# Altium footprint library Intersil.PcbLib: 1 footprints
Each footprint in its own frame and in the unit in brackets; x right, y up, seen from the top. Pads: shape width x height; smd on the part's side, far side on the other; paste and mask are expansions set on the pad; w line width, h text height; cw(c..) or ccw(c..) is an arc to the next point about the centre after c.
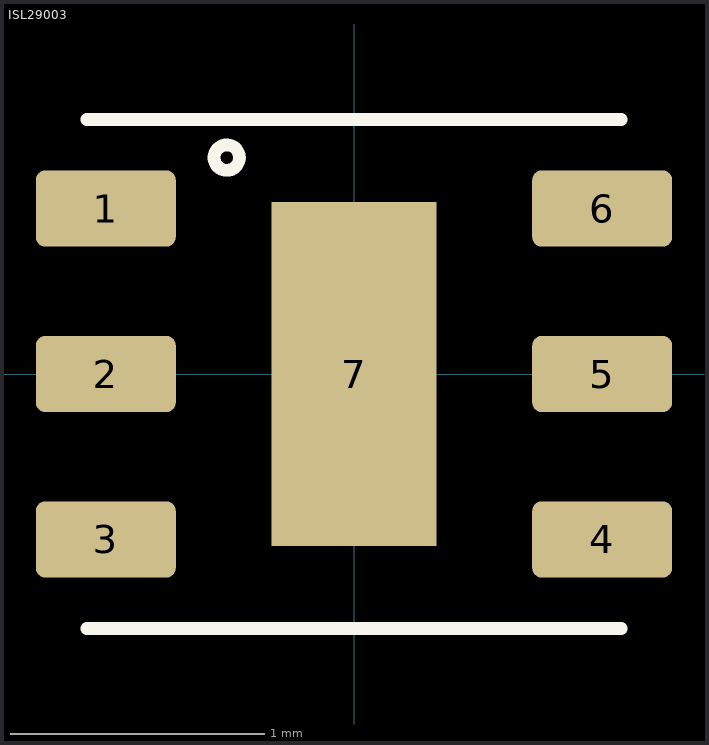
[diagram p0: the footprint, top view; thin cyan lines are the x and y axes]

## ISL29003 [mm] "ISL29003"
height 0.75
pads (7):
  rrect25% 0.55x0.3 smd: 1(-0.975,0.65) 2(-0.975,0) 3(-0.975,-0.65) 4(0.975,-0.65) 5(0.975,0) 6(0.975,0.65)
  rect 0.65x1.35 smd: 7(0,0)
Top Overlay:
  circle w0.05: c-0.5,0.85 r0.05
  lines w0.05: -1.05,-1 1.05,-1 ; -1.05,1 1.05,1
3D body: height 0.75, standoff 0, extent -1.05,-1 1.05,1